# Altium integrated library Switch.IntLib: 4 symbols
Pins are listed as number, name and electrical type; pins without a type are passive.

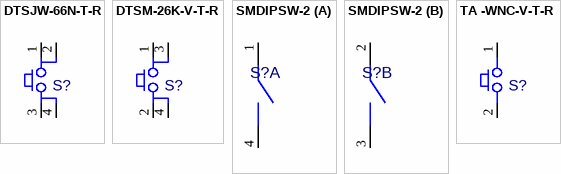
[diagram p0: symbols DTSJW-66N-T-R to TA -WNC-V-T-R]

## DTSJW-66N-T-R
designator S?, comment 70624-172  (value not drawn)
Switch, DTSJW-66N-T/R, SMD Single Pole Pushbutton 6mm; Value: DTSJW-66N-T-R; Librarian: UK; ECAD_Revision: 1; PartNumber: 70624-172; Item: *; HelpURL: *; Tolerance: *; Power Rating: *
footprint DTSJW-66N (SMT 6MM PUSH BUTTON)
pins: 1, 2, 3, 4

## DTSM-26K-V-T-R
designator S?, comment AWT25-000132  (value not drawn)
Switch DTSM-26K-V-T/R Single Pole Pushbutton 12mm; Value: DTSM-26K-V-T-R; Librarian: UK; ECAD_Revision: 2; PartNumber: AWT25-000132; HelpURL: *; Item: *
footprint DTSM-26K-V-T-R (SMT 12MM PUSH BUTTON, Rev. 2)
pins: 1, 2, 3, 4

## SMDIPSW-2
designator S?, comment 60217-0029  (value not drawn)
Switch, Dip 2 Pole; ECAD_Revsion: 1; Librarian: US; Value: {Value}; PartNumber: 60217-0029; HelpURL: K:\ACCELEDA\PDF Spec Files\Switch\60217.pdf; Item: *
footprint SMDIPSW-2 (Rev. 1)
part A pins: 1 PIN1, 4 PIN2
part B pins: 2 PIN1, 3 PIN2

## TA -WNC-V-T-R
designator S?, comment AWT25-000222  (value not drawn)
Switch MTA -WNC-V-T/R Single Pole Pushbutton 1.95mm; Librarian: UK; ECAD_Revision: 1; PartNumber: AWT25-000222; Value: MTA-WNC-V-T/R; HelpURL: *; Item: *
footprint MTA-WNC-V-T-R (DIPTRONICS MTA SERIES PUSH BUTTON RA)
pins: 1, 2